# EAGLE library part PIC18F23K22 (library SolarJackets_Common)
PIC18: 28-Pin Microcontroller; ADC Module- 10-Bit Resolution, up to 30 external channels; DAC Module- 2.048-4.096 V output levels, 5-bit rail-to-rail resistive with positive and negative reference selection;
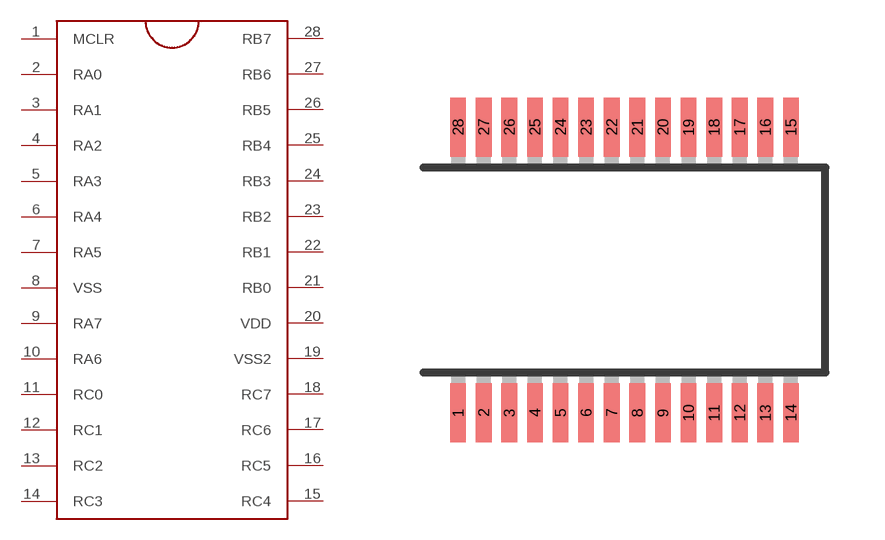
[diagram p10: symbol with the pads of SSOP28; footprint SSOP28]

Designator prefix -

## PIC18F23K22  [SSOP28]
1  MCLR
2  RA0
3  RA1
4  RA2
5  RA3
6  RA4
7  RA5
8  VSS
9  RA7
10  RA6
11  RC0
12  RC1
13  RC2
14  RC3
15  RC4
16  RC5
17  RC6
18  RC7
19  VSS2
20  VDD
21  RB0
22  RB1
23  RB2
24  RB3
25  RB4
26  RB5
27  RB6
28  RB7

## Footprint SSOP28 (pad centres in mm)
Shrink Small Outline Package package type SS
smd 0.4 x 1.5: 1 -4.225,-3.625; 2 -3.575,-3.625; 3 -2.925,-3.625; 4 -2.275,-3.625; 5 -1.625,-3.625; 6 -0.975,-3.625; 7 -0.325,-3.625; 8 0.325,-3.625; 9 0.975,-3.625; 10 1.625,-3.625; 11 2.275,-3.625; 12 2.925,-3.625; 13 3.575,-3.625; 14 4.225,-3.625; 15 4.225,3.625; 16 3.575,3.625; 17 2.925,3.625; 18 2.275,3.625; 19 1.625,3.625; 20 0.975,3.625; 21 0.325,3.625; 22 -0.325,3.625; 23 -0.975,3.625; 24 -1.625,3.625; 25 -2.275,3.625; 26 -2.925,3.625; 27 -3.575,3.625; 28 -4.225,3.625